# EAGLE library part 612026235221 (library Wuerth_Elektronik_eiCan_05_Box_Header_IDC_Connectors_1_2)
WR-BHD 2.54mm Male Angled Box Header High Temperature, 26 Pins
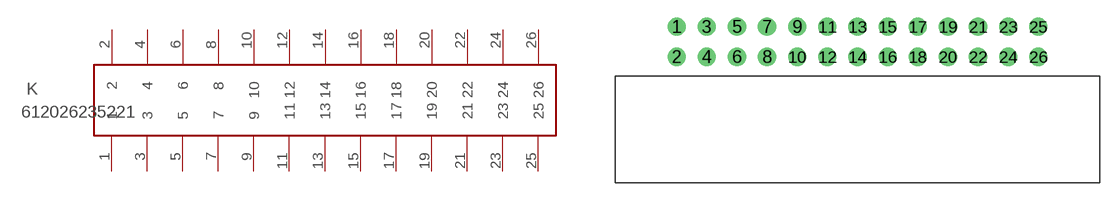
[diagram p118: symbol with the pads of 612026235221; footprint 612026235221]

Designator prefix K

## 612026235221  [612026235221]
1  1  pas
2  2  pas
3  3  pas
4  4  pas
5  5  pas
6  6  pas
7  7  pas
8  8  pas
9  9  pas
10  10  pas
11  11  pas
12  12  pas
13  13  pas
14  14  pas
15  15  pas
16  16  pas
17  17  pas
18  18  pas
19  19  pas
20  20  pas
21  21  pas
22  22  pas
23  23  pas
24  24  pas
25  25  pas
26  26  pas

## Footprint 612026235221 (pad centres in mm)
WR-BHD 2.54mm Male Angled Box Header High Temperature, 26 Pins
drill 1.02: 1 -27.94,1.27; 2 -27.94,-1.27; 3 -25.4,1.27; 4 -25.4,-1.27; 5 -22.86,1.27; 6 -22.86,-1.27; 7 -20.32,1.27; 8 -20.32,-1.27; 9 -17.78,1.27; 10 -17.78,-1.27; 11 -15.24,1.27; 12 -15.24,-1.27; 13 -12.7,1.27; 14 -12.7,-1.27; 15 -10.16,1.27; 16 -10.16,-1.27; 17 -7.62,1.27; 18 -7.62,-1.27; 19 -5.08,1.27; 20 -5.08,-1.27; 21 -2.54,1.27; 22 -2.54,-1.27; 23 0,1.27; 24 0,-1.27; 25 2.54,1.27; 26 2.54,-1.27